# Altium schematic symbol library AT32F415RBT7.Schlib: 1 symbol
Pins are listed as number, name and electrical type; pins without a type are passive.

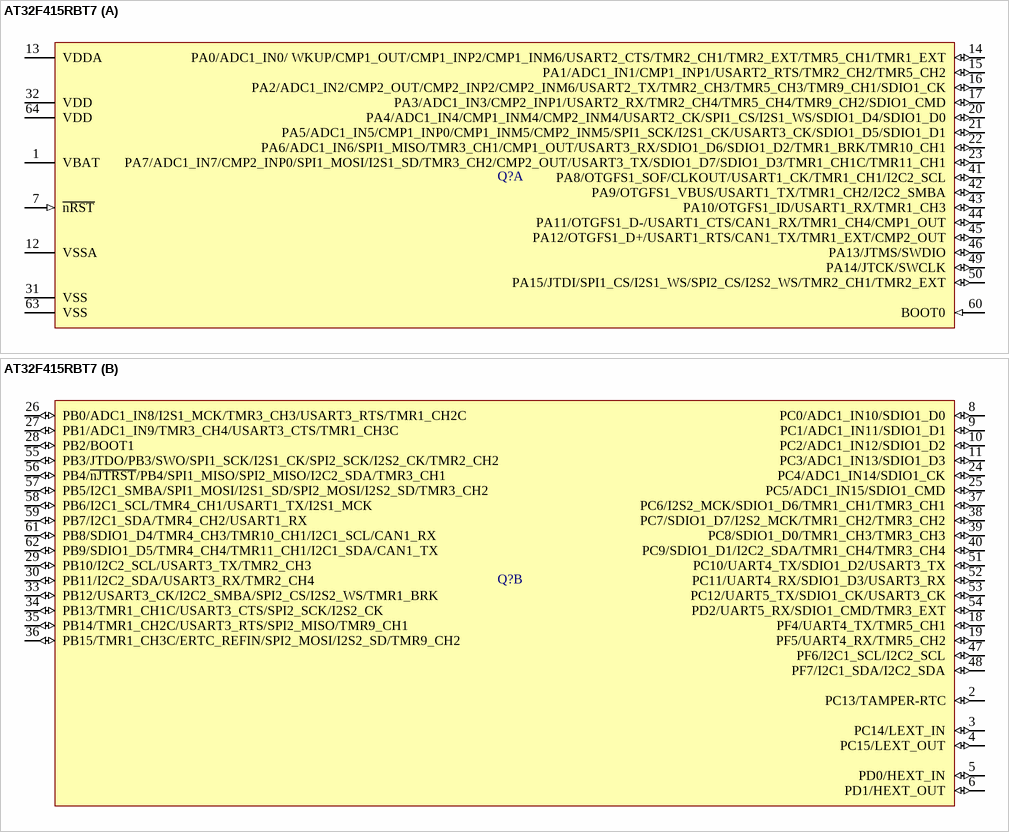
[diagram p0: symbol AT32F415RBT7]

## AT32F415RBT7
designator Q?
part A pins: 1 VBAT (power), 7 ~{nRST} (in), 12 VSSA (power), 13 VDDA (power), 14 PA0/ADC1_IN0/ WKUP/CMP1_OUT/CMP1_INP2/CMP1_INM6/USART2_CTS/TMR2_CH1/TMR2_EXT/TMR5_CH1/TMR1_EXT (io), 15 PA1/ADC1_IN1/CMP1_INP1/USART2_RTS/TMR2_CH2/TMR5_CH2 (io), 16 PA2/ADC1_IN2/CMP2_OUT/CMP2_INP2/CMP2_INM6/USART2_TX/TMR2_CH3/TMR5_CH3/TMR9_CH1/SDIO1_CK (io), 17 PA3/ADC1_IN3/CMP2_INP1/USART2_RX/TMR2_CH4/TMR5_CH4/TMR9_CH2/SDIO1_CMD (io), 20 PA4/ADC1_IN4/CMP1_INM4/CMP2_INM4/USART2_CK/SPI1_CS/I2S1_WS/SDIO1_D4/SDIO1_D0 (io), 21 PA5/ADC1_IN5/CMP1_INP0/CMP1_INM5/CMP2_INM5/SPI1_SCK/I2S1_CK/USART3_CK/SDIO1_D5/SDIO1_D1 (io), 22 PA6/ADC1_IN6/SPI1_MISO/TMR3_CH1/CMP1_OUT/USART3_RX/SDIO1_D6/SDIO1_D2/TMR1_BRK/TMR10_CH1 (io), 23 PA7/ADC1_IN7/CMP2_INP0/SPI1_MOSI/I2S1_SD/TMR3_CH2/CMP2_OUT/USART3_TX/SDIO1_D7/SDIO1_D3/TMR1_CH1C/TMR11_CH1 (io), 31 VSS (power), 32 VDD (power), 41 PA8/OTGFS1_SOF/CLKOUT/USART1_CK/TMR1_CH1/I2C2_SCL (io), 42 PA9/OTGFS1_VBUS/USART1_TX/TMR1_CH2/I2C2_SMBA (io), 43 PA10/OTGFS1_ID/USART1_RX/TMR1_CH3 (io), 44 PA11/OTGFS1_D-/USART1_CTS/CAN1_RX/TMR1_CH4/CMP1_OUT (io), 45 PA12/OTGFS1_D+/USART1_RTS/CAN1_TX/TMR1_EXT/CMP2_OUT (io), 46 PA13/JTMS/SWDIO (io), 49 PA14/JTCK/SWCLK (io), 50 PA15/JTDI/SPI1_CS/I2S1_WS/SPI2_CS/I2S2_WS/TMR2_CH1/TMR2_EXT (io), 60 BOOT0 (in), 63 VSS (power), 64 VDD (power)
part B pins: 2 PC13/TAMPER-RTC (io), 3 PC14/LEXT_IN (io), 4 PC15/LEXT_OUT (io), 5 PD0/HEXT_IN (io), 6 PD1/HEXT_OUT (io), 8 PC0/ADC1_IN10/SDIO1_D0 (io), 9 PC1/ADC1_IN11/SDIO1_D1 (io), 10 PC2/ADC1_IN12/SDIO1_D2 (io), 11 PC3/ADC1_IN13/SDIO1_D3 (io), 18 PF4/UART4_TX/TMR5_CH1 (io), 19 PF5/UART4_RX/TMR5_CH2 (io), 24 PC4/ADC1_IN14/SDIO1_CK (io), 25 PC5/ADC1_IN15/SDIO1_CMD (io), 26 PB0/ADC1_IN8/I2S1_MCK/TMR3_CH3/USART3_RTS/TMR1_CH2C (io), 27 PB1/ADC1_IN9/TMR3_CH4/USART3_CTS/TMR1_CH3C (io), 28 PB2/BOOT1 (io), 29 PB10/I2C2_SCL/USART3_TX/TMR2_CH3 (io), 30 PB11/I2C2_SDA/USART3_RX/TMR2_CH4 (io), 33 PB12/USART3_CK/I2C2_SMBA/SPI2_CS/I2S2_WS/TMR1_BRK (io), 34 PB13/TMR1_CH1C/USART3_CTS/SPI2_SCK/I2S2_CK (io), 35 PB14/TMR1_CH2C/USART3_RTS/SPI2_MISO/TMR9_CH1 (io), 36 PB15/TMR1_CH3C/ERTC_REFIN/SPI2_MOSI/I2S2_SD/TMR9_CH2 (io), 37 PC6/I2S2_MCK/SDIO1_D6/TMR1_CH1/TMR3_CH1 (io), 38 PC7/SDIO1_D7/I2S2_MCK/TMR1_CH2/TMR3_CH2 (io), 39 PC8/SDIO1_D0/TMR1_CH3/TMR3_CH3 (io), 40 PC9/SDIO1_D1/I2C2_SDA/TMR1_CH4/TMR3_CH4 (io), 47 PF6/I2C1_SCL/I2C2_SCL (io), 48 PF7/I2C1_SDA/I2C2_SDA (io), 51 PC10/UART4_TX/SDIO1_D2/USART3_TX (io), 52 PC11/UART4_RX/SDIO1_D3/USART3_RX (io), 53 PC12/UART5_TX/SDIO1_CK/USART3_CK (io), 54 PD2/UART5_RX/SDIO1_CMD/TMR3_EXT (io), 55 PB3/JTDO/PB3/SWO/SPI1_SCK/I2S1_CK/SPI2_SCK/I2S2_CK/TMR2_CH2 (io), 56 PB4/~{nJTRST}/PB4/SPI1_MISO/SPI2_MISO/I2C2_SDA/TMR3_CH1 (io), 57 PB5/I2C1_SMBA/SPI1_MOSI/I2S1_SD/SPI2_MOSI/I2S2_SD/TMR3_CH2 (io), 58 PB6/I2C1_SCL/TMR4_CH1/USART1_TX/I2S1_MCK (io), 59 PB7/I2C1_SDA/TMR4_CH2/USART1_RX (io), 61 PB8/SDIO1_D4/TMR4_CH3/TMR10_CH1/I2C1_SCL/CAN1_RX (io), 62 PB9/SDIO1_D5/TMR4_CH4/TMR11_CH1/I2C1_SDA/CAN1_TX (io)